# Altium footprint library Header.PcbLib: 28 footprints (part 2 of 2)
Each footprint in its own frame and in the unit in brackets; x right, y up, seen from the top. Pads: shape width x height; smd on the part's side, far side on the other; paste and mask are expansions set on the pad; w line width, h text height; cw(c..) or ccw(c..) is an arc to the next point about the centre after c.
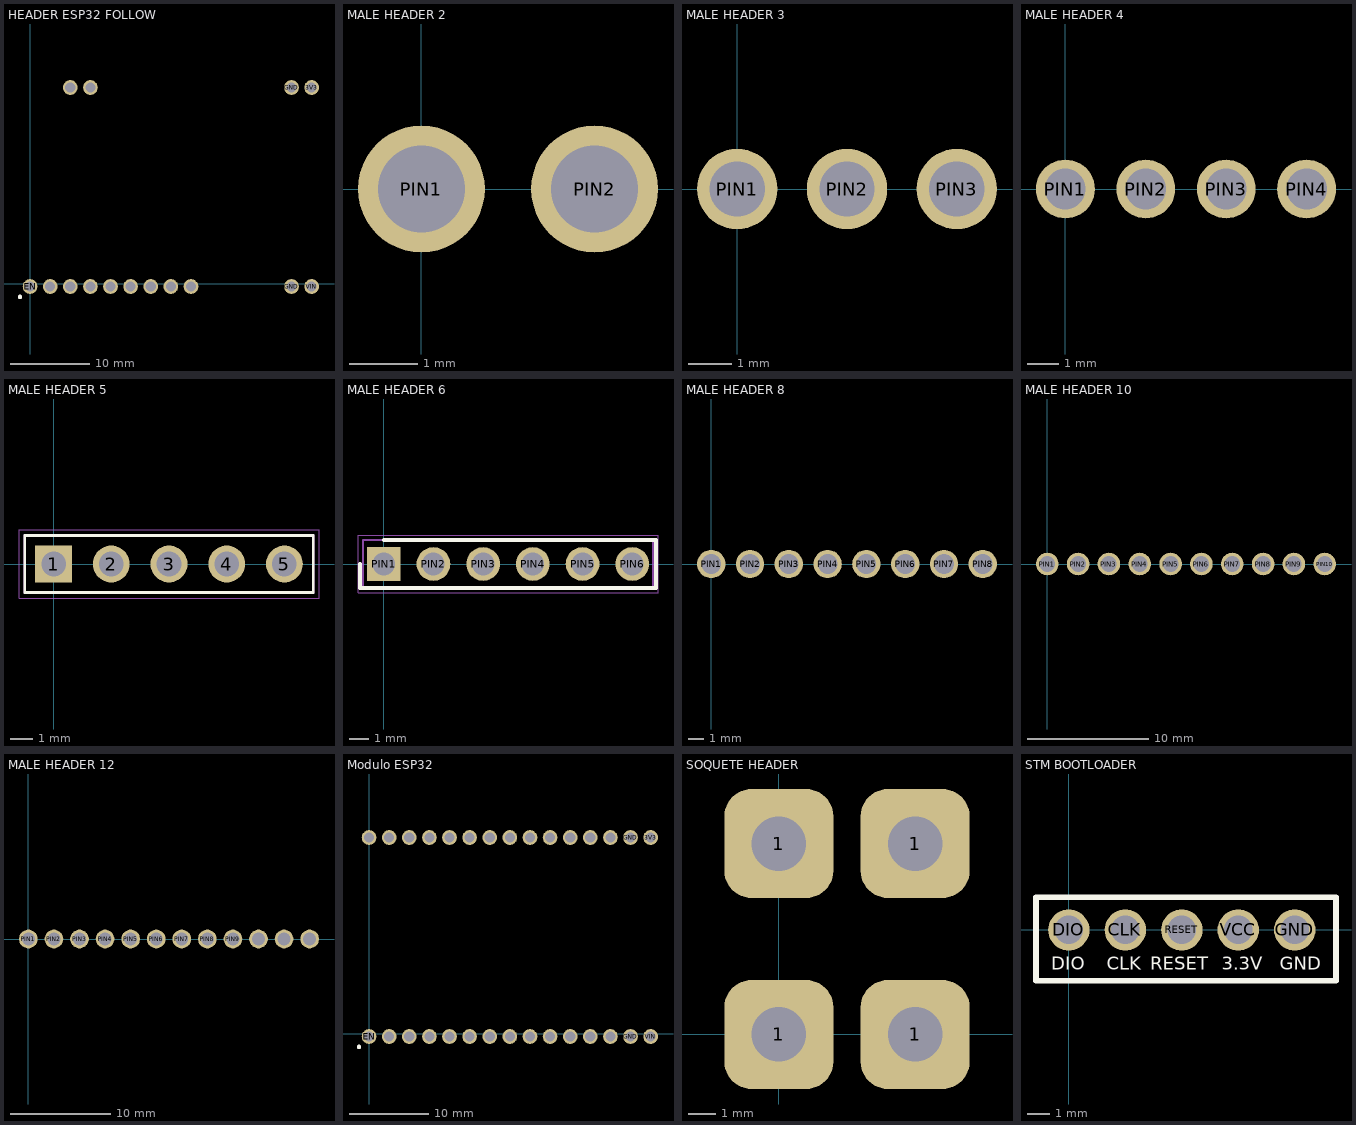
[diagram p1: the footprints below, top view; thin cyan lines are the x and y axes]

## HEADER ESP32 FOLLOW [mm]
pads (15):
  round 1.86 hole 1.28: 3V3(35.56,24.779) EN(0,-0.352) GND(33.02,-0.352) GND(33.02,24.779) PIN2(2.54,-0.352) PIN3(5.08,-0.352) PIN4(7.62,-0.352) PIN5(10.16,-0.352) PIN6(12.7,-0.352) PIN7(15.24,-0.352) PIN8(17.78,-0.352) PIN9(20.32,-0.352) PIN18(5.08,24.779) PIN19(7.62,24.779) VIN(35.56,-0.352)
Top Overlay:
  circle w0.3: c-1.27,-1.651 r0.127
3D body "ESP-32_v1.STEP": height 12.2, standoff -0.2, extent -5.658,-1.52 45.272,26.98
3D body "zl305-15s_p2-54_l38-6_w2-5_h5.stp": height 5, standoff -3, extent -1.516,-1.27 37.084,1.23
3D body "zl305-15s_p2-54_l38-6_w2-5_h5.stp": height 5, standoff -3, extent -1.516,24.029 37.084,26.53

## MALE HEADER 2 [mm]
pads (2):
  round 1.86 hole 1.28: PIN1(0,0) PIN2(2.54,0)
3D body "User Library-2PIN.STEP": height 8, standoff -3, extent -1.27,-1.27 3.81,1.27

## MALE HEADER 3 [mm]
pads (3):
  round 1.86 hole 1.28: PIN1(0,0) PIN2(2.54,0) PIN3(5.08,0)
3D body "User Library-1x3 TH Pitch 2_54mm.STEP": height 3.5, standoff -9.2, extent -1.27,-1.27 6.35,1.27

## MALE HEADER 4 [mm]
pads (4):
  round 1.86 hole 1.28: PIN1(0,0) PIN2(2.54,0) PIN3(5.08,0) PIN4(7.62,0)
3D body "User Library-1x4 TH Pitch 2_54mm.STEP": height 3, standoff -9.7, extent -1.27,-1.397 8.89,1.143

## MALE HEADER 5 [mm] "Header, Vertical, 2.54 mm pitch; 0.66 mm lead width, 5 pins, 1 row, 5 pins per row, 12.70 mm L X 2.49 mm W X 9.02 mm H body"
height 9.02
pads (5):
  rect 1.62x1.62 / inner round 1.62 / far side rect 1.62x1.62 hole 1.08 paste-1.62: 1(0,0)
  round 1.62 hole 1.08 paste-1.62: 2(2.54,0) 3(5.08,0) 4(7.62,0) 5(10.16,0)
Top Overlay:
  lines w0.12: -1.27,-1.25 -1.27,1.25 11.43,1.25 11.43,-1.25 -1.27,-1.25
Mechanical 11:
  lines w0.12: -1.27,-1.25 -1.27,1.25 11.43,1.25 11.43,-1.25 -1.27,-1.25
Mechanical 12:
  lines w0.025: -1.27,-1.245 -1.27,1.245 11.43,1.245 11.43,-1.245 -1.27,-1.245 ; -0.33,-0.33 -0.33,0.33 0.33,0.33 0.33,-0.33 -0.33,-0.33 ; 2.21,-0.33 2.21,0.33 2.87,0.33 2.87,-0.33 2.21,-0.33 ; 4.75,-0.33 4.75,0.33 5.41,0.33 5.41,-0.33 4.75,-0.33 ; 7.29,-0.33 7.29,0.33 7.95,0.33 7.95,-0.33 7.29,-0.33 ; 9.83,-0.33 9.83,0.33 10.49,0.33 10.49,-0.33 9.83,-0.33
Mechanical 15:
  circle w0.05: c0,0 r0.25
  lines w0.05: -0.35,0 0.35,0 ; 0,-0.35 0,0.35 ; -1.52,-1.5 -1.52,1.5 11.68,1.5 11.68,-1.5 -1.52,-1.5
Mechanical 16:
  text ".Designator" at 0,0 h1.2
3D body "HDRV5W66P254_5X1_1270X249H902.STEP": height 9.02, standoff -2, extent -1.27,-1.245 11.43,1.245

## MALE HEADER 6 [mm]
pads (6):
  rect 1.725x1.725 hole 1.15: PIN1(0,0)
  round 1.725 hole 1.15: PIN2(2.54,0) PIN3(5.08,0) PIN4(7.62,0) PIN5(10.16,0) PIN6(12.7,0)
Top Overlay:
  lines w0.2: -1.212,0 -1.212,-1.22 13.913,-1.22 13.913,1.22 0,1.22
Mechanical 13:
  lines w0.1: -1.065,-1.22 -1.065,1.22 13.765,1.22 13.765,-1.22 -1.065,-1.22
Mechanical 15:
  lines w0.05: -1.315,-1.47 -1.315,1.47 14.015,1.47 14.015,-1.47 -1.315,-1.47
3D body "87220-6.stp": height 10.37, standoff -3.17, extent -1.067,-1.168 13.767,1.168

## MALE HEADER 8 [mm]
pads (8):
  round 1.86 hole 1.28: PIN1(0,0) PIN2(2.54,0) PIN3(5.08,0) PIN4(7.62,0) PIN5(10.16,0) PIN6(12.7,0) PIN7(15.24,0) PIN8(17.78,0)
3D body "User Library-1x8 TH Pitch 2_54mm.STEP": height 9.2, standoff -3.5, extent -1.143,-1.27 19.177,1.27

## MALE HEADER 10 [mm]
pads (10):
  round 1.86 hole 1.28: PIN1(0,0) PIN2(2.54,0) PIN3(5.08,0) PIN4(7.62,0) PIN5(10.16,0) PIN6(12.7,0) PIN7(15.24,0) PIN8(17.78,0) PIN9(20.32,0) PIN10(22.86,0)
3D body "User Library-1x10 TH Pitch 2_54mm.STEP": height 9.2, standoff -3.5, extent -1.173,-1.27 24.227,1.27

## MALE HEADER 12 [mm]
pads (12):
  round 1.86 hole 1.28: PIN1(0,0) PIN2(2.54,0) PIN3(5.08,0) PIN4(7.62,0) PIN5(10.16,0) PIN6(12.7,0) PIN7(15.24,0) PIN8(17.78,0) PIN9(20.32,0) PIN10(22.86,0) PIN11(25.4,0) PIN12(27.94,0)
3D body "12x1_male_header_pin_AP214.STEP": height 8.72, standoff -2.82, extent -1.27,-1.263 29.21,1.27

## Modulo ESP32 [mm]
pads (30):
  round 1.86 hole 1.28: 3V3(35.56,24.779) EN(0,-0.352) GND(33.02,-0.352) GND(33.02,24.779) PIN2(2.54,-0.352) PIN3(5.08,-0.352) PIN4(7.62,-0.352) PIN5(10.16,-0.352) PIN6(12.7,-0.352) PIN7(15.24,-0.352) PIN8(17.78,-0.352) PIN9(20.32,-0.352) PIN10(22.86,-0.352) PIN11(25.4,-0.352) PIN12(27.94,-0.352) PIN13(30.48,-0.352) PIN16(0,24.779) PIN17(2.54,24.779) PIN18(5.08,24.779) PIN19(7.62,24.779) PIN20(10.16,24.779) PIN21(12.7,24.779) PIN22(15.24,24.779) PIN23(17.78,24.779) PIN24(20.32,24.779) PIN25(22.86,24.779) PIN26(25.4,24.779) PIN27(27.94,24.779) PIN28(30.48,24.779) VIN(35.56,-0.352)
Top Overlay:
  circle w0.3: c-1.27,-1.651 r0.127
3D body "zl305-15s_p2-54_l38-6_w2-5_h5.stp": height 5, standoff -3, extent -1.516,24.029 37.084,26.53
3D body "zl305-15s_p2-54_l38-6_w2-5_h5.stp": height 5, standoff -3, extent -1.516,-1.27 37.084,1.23
3D body "ESP-32_v1.STEP": height 12.2, standoff -0.2, extent -5.658,-1.52 45.272,26.98

## SOQUETE HEADER [mm]
pads (4):
  rrect50% 4x4 hole 2: 1(0,0) 1(0,7) 1(5,0) 1(5,7)
3D body "Conector Anel.stp": height 9.26, standoff -2, extent -1.45,-0.492 6.518,7.492

## STM BOOTLOADER [mm]
pads (5):
  round 1.86 hole 1.28: CLK(2.54,0) DIO(0,0) GND(10.16,0) RESET(5.08,0) VCC(7.62,0)
Top Overlay:
  lines w0.254: -1.473,-2.286 -1.473,1.473 12.014,1.473 12.014,-2.286 -1.473,-2.286
  text "CLK" at 1.702,-1.997 h1
  text "RESET" at 3.658,-1.997 h1
  text "3.3V" at 6.883,-1.992 h1
  text "GND" at 9.474,-1.992 h1
  text "DIO" at -0.787,-1.997 h1
3D body "User Library-DS1023-1x5S21.step": height 8.5, standoff -3, extent -1.317,-1.194 11.883,1.346